# Altium integrated library Integrated_Library - 03.05.18 - 00.33.IntLib: 1 symbol
Pins are listed as number, name and electrical type; pins without a type are passive.

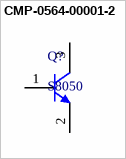
[diagram p0: symbol CMP-0564-00001-2]

## CMP-0564-00001-2
designator Q?, comment S8050
NPN Transistor, 0.8 A Collector Current, 3-Pin SOT23, RoHS, Tape and Reel; Manufacturer: Koo Chin; IEBO (max): 0.1 uA; V (BR) EBO (min): 5 V; VCE (sat) (max): 0.6 V; fT(min): 150 MHz; V (BR) CEO (min): 25 V; V (BR) CBO (min): 40 V; VBE (sat) (max): 1.2 V; NPN/PNP: NPN; PackageDescription: 3-Pin Small Out-Line Transistor, Body 1.3 x 2.9 mm, Pitch 0.95 mm; ComponentLink3Description: Package Specification; ComponentLink1Description: Manufacturer URL; RoHS: TRUE; ICEO (max): 0.1 uA; ComponentLink1URL: http://www.hz-dz.net/; PartNumber: S8050; ComponentLink2URL: http://www.hz-dz.net/UploadFiles/2009812164318190.pdf; Packing: Tape and Reel; ComponentLink3URL: http://galaxycn.com/jsp/upload/S8050.pdf; ICBO (max): 0.1 uA; Mounting Technology: Surface Mount; PackageReference: SOT23-3; ComponentLink2Description: Datasheet; DatasheetVersion: 17/08/2009
footprint KOCN-SOT23-3_L (SOT23, 3-Leads, Body 1.35x2.95mm, Pitch 0.95mm, IPC High Density)
footprint KOCN-SOT23-3_N (SOT23, 3-Leads, Body 1.35x2.95mm, Pitch 0.95mm, IPC Medium Density)
footprint KOCN-SOT23-3_M (SOT23, 3-Leads, Body 1.35x2.95mm, Pitch 0.95mm, IPC Low Density)
pins: 1 BASE, 2 EMITTER, 3 COLLECTOR